# EAGLE library part IC-TTL-74-125 (library mylib)
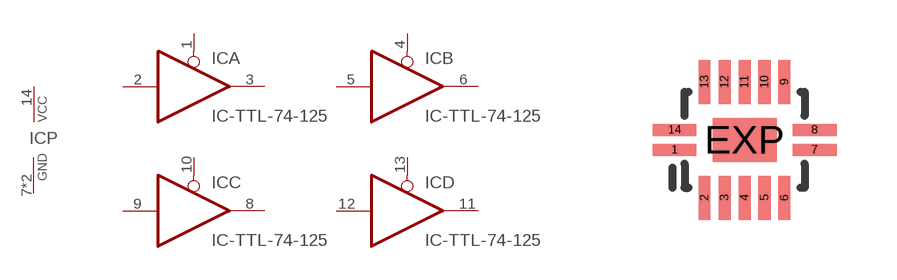
[diagram p101: symbol with the pads of DHVQFN14; footprint DHVQFN14]

Designator prefix IC; gates A=IC-TTL-74125 B=IC-TTL-74125 C=IC-TTL-74125 D=IC-TTL-74125 P=POW-TTL

## IC-TTL-74-125  [DHVQFN14]
1  A:OE  in
2  A:I  in
3  A:O  hiz
4  B:OE  in
5  B:I  in
6  B:O  hiz
7  P:GND  pwr
8  C:O  hiz
9  C:I  in
10  C:OE  in
11  D:O  hiz
12  D:I  in
13  D:OE  in
14  P:VCC  pwr
EXP  P:GND  pwr

## Footprint DHVQFN14 (pad centres in mm)
plastic dual in-line compatible thermal enhanced very thin quad flat package; no leads; 14 terminals; body 2.5 x 3 x 0.85 mm Source: http://www.nxp.com/documents/data_sheet/74ABT125.pdf
smd 1.1 x 0.3: 1 -1.75,-0.25; 7 1.75,-0.25; 8 1.75,0.25; 14 -1.75,0.25
smd 0.3 x 1.1: 2 -1,-1.45; 3 -0.5,-1.45; 4 0,-1.45; 5 0.5,-1.45; 6 1,-1.45; 9 1,1.45; 10 0.5,1.45; 11 0,1.45; 12 -0.5,1.45; 13 -1,1.45
smd 1.6 x 1.1: EXP 0,0